# EAGLE library part BTS5210G (library BTS5210G_sw)
Infineon Smart High-Side Power Switch PROFET Dual-Channel Current Limit: 2.4A (continuous) Voltage Range: 5.5V...40V
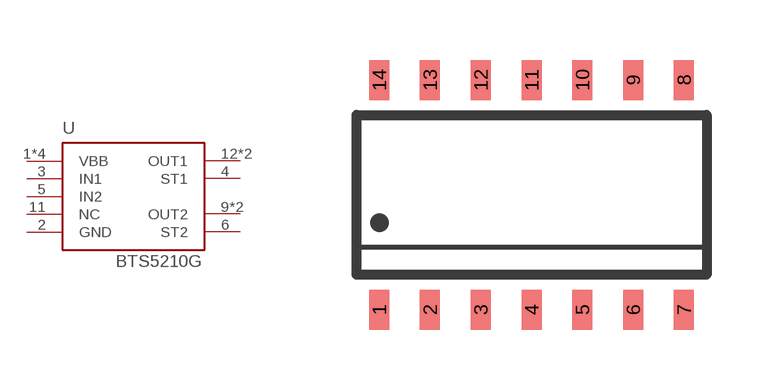
[diagram p0: symbol with the pads of SOIC-14; footprint SOIC-14]

Designator prefix -

## BTS5210G  [SOIC-14]
1  VBB  pwr
2  GND  pwr
3  IN1  in
4  ST1  out
5  IN2  in
6  ST2  out
7  VBB  pwr
8  VBB  pwr
9  OUT2  out
10  OUT2  out
11  NC  nc
12  OUT1  out
13  OUT1  out
14  VBB  pwr

## Footprint SOIC-14 (pad centres in mm)
smd 0.5 x 1: 1 -3.81,-2.875; 2 -2.54,-2.875; 3 -1.27,-2.875; 4 0,-2.875; 5 1.27,-2.875; 6 2.54,-2.875; 7 3.81,-2.875; 8 3.81,2.875; 9 2.54,2.875; 10 1.27,2.875; 11 0,2.875; 12 -1.27,2.875; 13 -2.54,2.875; 14 -3.81,2.875